# EAGLE library part A8_CART (library sjg-con)
This is the Atari Cartridge port part - Digikey part <https://www.digikey.com/product-detail/en/te-connectivity-amp-connectors/5650118-1/A115472-ND/2135730> Verified against pinouts <http://www.hardwarebook.info/Atari_8-bit_Cartridge>
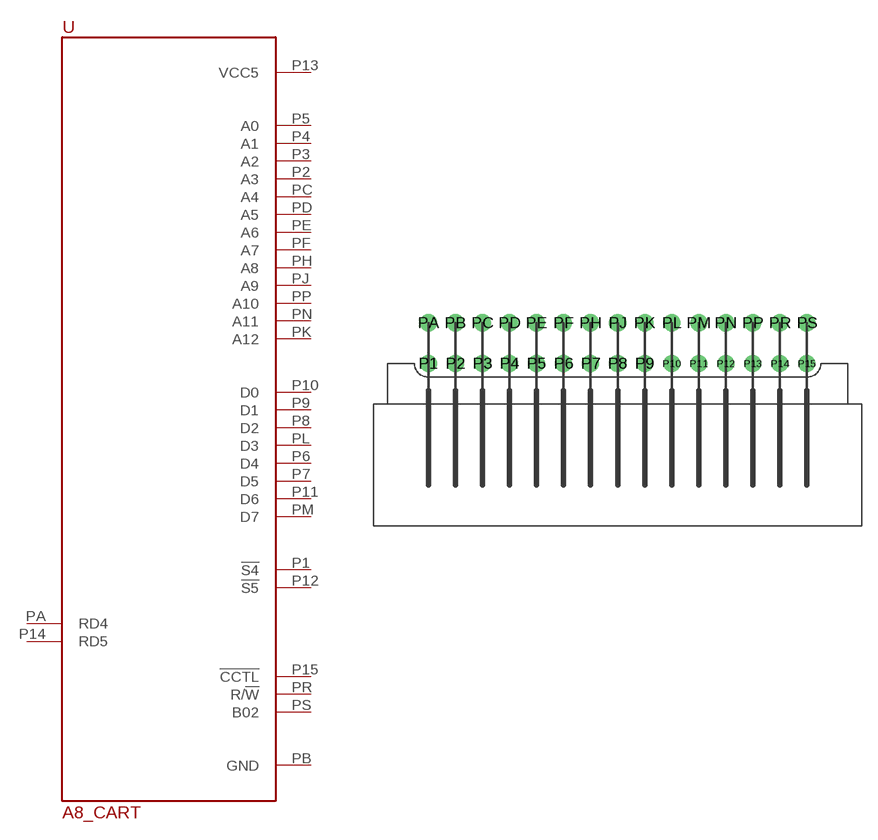
[diagram p6: symbol with the pads of A8_CART; footprint A8_CART]

Designator prefix -

## A8_CART  [A8_CART]
P1  !S4!
P2  A3
P3  A2
P4  A1
P5  A0
P6  D4
P7  D5
P8  D2
P9  D1
P10  D0
P11  D6
P12  !S5!
P13  VCC5
P14  RD5
P15  !CCTL!
PA  RD4
PB  GND
PC  A4
PD  A5
PE  A6
PF  A7
PH  A8
PJ  A9
PK  A12
PL  D3
PM  D7
PN  A11
PP  A10
PR  R/!W!
PS  B02

## Footprint A8_CART (pad centres in mm)
drill 1.067: P1 -17.78,6.35; P2 -15.24,6.35; P3 -12.7,6.35; P4 -10.16,6.35; P5 -7.62,6.35; P6 -5.08,6.35; P7 -2.54,6.35; P8 0,6.35; P9 2.54,6.35; P10 5.08,6.35; P11 7.62,6.35; P12 10.16,6.35; P13 12.7,6.35; P14 15.24,6.35; P15 17.78,6.35; PA -17.78,10.16; PB -15.24,10.16; PC -12.7,10.16; PD -10.16,10.16; PE -7.62,10.16; PF -5.08,10.16; PH -2.54,10.16; PJ 0,10.16; PK 2.54,10.16; PL 5.08,10.16; PM 7.62,10.16; PN 10.16,10.16; PP 12.7,10.16; PR 15.24,10.16; PS 17.78,10.16